# EAGLE library part FABO-ARDUINO-VOLTERA (library FaBo-Template)
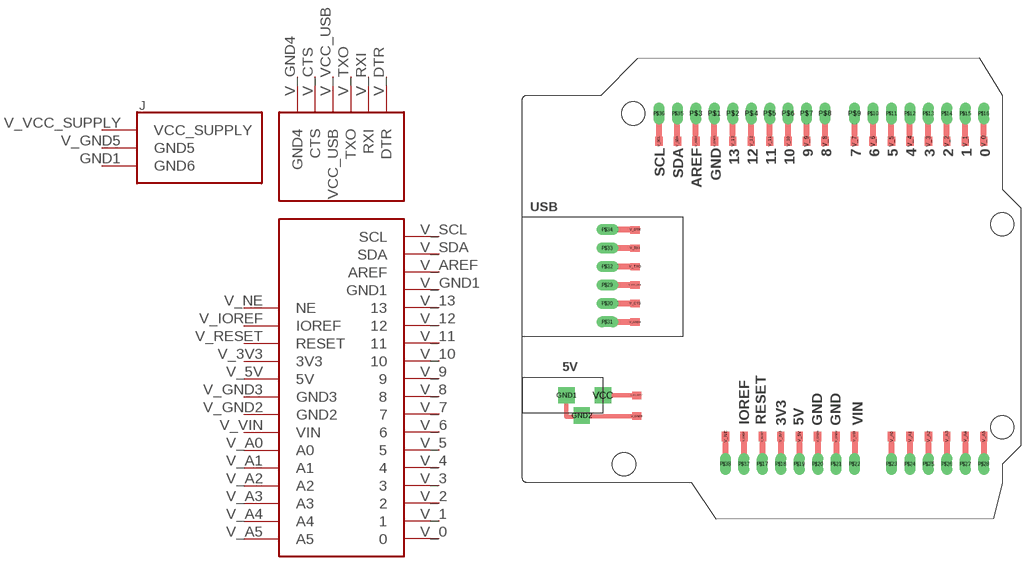
[diagram p5: symbol with the pads of FABO-ARDUINO-VOLTERA; footprint FABO-ARDUINO-VOLTERA]

Designator prefix J

## FABO-ARDUINO-VOLTERA-VOLTERA  [FABO-ARDUINO-VOLTERA]
GND1  GND6
V_0  0
V_1  1
V_2  2
V_3  3
V_3V3  3V3
V_4  4
V_5  5
V_5V  5V
V_6  6
V_7  7
V_8  8
V_9  9
V_10  10
V_11  11
V_12  12
V_13  13
V_A0  A0
V_A1  A1
V_A2  A2
V_A3  A3
V_A4  A4
V_A5  A5
V_AREF  AREF
V_CTS  CTS
V_DTR  DTR
V_GND1  GND1
V_GND2  GND2
V_GND3  GND3
V_GND4  GND4
V_GND5  GND5
V_IOREF  IOREF
V_NE  NE
V_RESET  RESET
V_RXI  RXI
V_SCL  SCL
V_SDA  SDA
V_TXO  TXO
V_VCC_SUPPLY  VCC_SUPPLY
V_VCC_USB  VCC_USB
V_VIN  VIN

## Footprint FABO-ARDUINO-VOLTERA (pad centres in mm)
drill 1.5 square: GND1 -29.497,-14.656; GND2 -27.397,-17.456; VCC -24.497,-14.656
drill 1 pad 1.422 long: P$1 -9.131,24.13; P$2 -6.591,24.13; P$3 -11.671,24.13; P$4 -4.051,24.13; P$5 -1.511,24.13; P$6 1.029,24.13; P$7 3.569,24.13; P$8 6.109,24.13; P$9 10.173,24.13; P$10 12.713,24.13; P$11 15.253,24.13; P$12 17.793,24.13; P$13 20.333,24.13; P$14 22.873,24.13; P$15 25.413,24.13; P$16 27.953,24.13; P$17 -2.527,-24.13; P$18 0.013,-24.13; P$19 2.553,-24.13; P$20 5.093,-24.13; P$21 7.633,-24.13; P$22 10.173,-24.13; P$23 15.253,-24.13; P$24 17.793,-24.13; P$25 20.333,-24.13; P$26 22.873,-24.13; P$27 25.413,-24.13; P$28 27.953,-24.13; P$29 -23.876,0.521; P$30 -23.876,-2.019; P$31 -23.876,-4.559; P$32 -23.876,3.061; P$33 -23.876,5.601; P$34 -23.876,8.141; P$35 -14.211,24.13; P$36 -16.751,24.13; P$37 -5.067,-24.13; P$38 -7.607,-24.13
smd 1.016 x 1.27: V_0 27.94,20.32; V_1 25.4,20.32; V_2 22.86,20.32; V_3 20.32,20.32; V_3V3 0,-20.32; V_4 17.78,20.32; V_5 15.24,20.32; V_5V 2.54,-20.32; V_6 12.7,20.32; V_7 10.16,20.32; V_8 6.096,20.32; V_9 3.556,20.32; V_10 1.016,20.32; V_11 -1.524,20.32; V_12 -4.064,20.32; V_13 -6.604,20.32; V_A0 15.24,-20.32; V_A1 17.78,-20.32; V_A2 20.32,-20.32; V_A3 22.86,-20.32; V_A4 25.4,-20.32; V_A5 27.94,-20.32; V_AREF -11.684,20.32; V_GND1 -9.144,20.32; V_GND2 7.62,-20.32; V_GND3 5.08,-20.32; V_IOREF -5.08,-20.32; V_NE -7.62,-20.32; V_RESET -2.54,-20.32; V_SCL -16.764,20.32; V_SDA -14.224,20.32; V_VIN 10.16,-20.32
smd 1.27 x 1.016: V_CTS -20.066,-2.032; V_DTR -20.066,8.128; V_GND4 -20.066,-4.572; V_GND5 -19.837,-17.526; V_RXI -20.066,5.588; V_TXO -20.066,3.048; V_VCC_SUPPLY -19.837,-14.656; V_VCC_USB -20.066,0.508
hole 3.2 at 30.48,8.89
hole 3.2 at 30.48,-19.05
hole 3.2 at -20.32,24.13
hole 3.2 at -21.59,-24.13